# Altium footprint library SimpleLib.PcbLib: 18 footprints (part 2 of 2)
Each footprint in its own frame and in the unit in brackets; x right, y up, seen from the top. Pads: shape width x height; smd on the part's side, far side on the other; paste and mask are expansions set on the pad; w line width, h text height; cw(c..) or ccw(c..) is an arc to the next point about the centre after c.
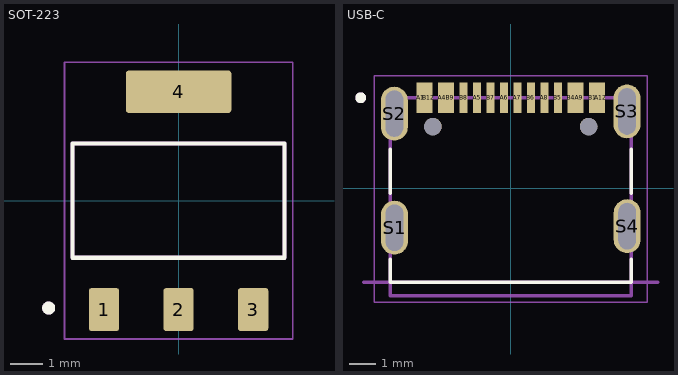
[diagram p1: the footprints below, top view; thin cyan lines are the x and y axes]

## SOT-223 [mm]
pads (4):
  rrect15% 0.93x1.31 smd: 1(-2.29,-3.345) 2(0,-3.345) 3(2.29,-3.345)
  rrect15% 3.24x1.31 smd: 4(0,3.345)
Top Overlay:
  circle w0.2: c-3.99,-3.3 r0.1
  lines w0.127: -3.253,-1.753 -3.253,1.753 3.253,1.753 3.253,-1.753 -3.253,-1.753
Mechanical 13:
  circle w0.2: c-3.99,-3.3 r0.1
  lines w0.127: -3.253,-1.753 -3.253,1.753 3.253,1.753 3.253,-1.753 -3.253,-1.753
Mechanical 15:
  lines w0.05: -3.502,-4.25 -3.502,4.25 3.502,4.25 3.502,-4.25 -3.502,-4.25
3D body "step_temp.STEP": height 1.8, standoff 0, extent -3.251,-3.499 3.251,3.499

## USB-C [mm]
pads (23):
  rect 0.3x1.14 smd mask+0: A1(-3.35,3.365) A4(-2.55,3.365) A5(-1.25,3.365) A6(-0.25,3.365) A7(0.25,3.365) A8(1.25,3.365) A9(2.55,3.365) A12(3.35,3.365) B1(3.05,3.365) B4(2.25,3.365) B5(1.75,3.365) B6(0.75,3.365) B7(-0.75,3.365) B8(-1.75,3.365) B9(-2.25,3.365) B12(-3.05,3.365)
  oval 1x2 hole 0.65 slot 1.72 at 90 deg: S1(-4.318,-1.46) S2(-4.325,2.776) S3(4.318,2.857) ""(4.325,-1.405)
  oval 0.9x1.8 hole 0.65 slot 1.4 at 90 deg: S4(4.325,-1.405)
  round 0.65 hole 0.65 unplated mask+0: ""(-2.89,2.295) ""(2.89,2.295)
Top Overlay:
  circle w0.2: c-5.575,3.365 r0.1
  lines w0.127: -4.47,-2.635 -4.47,-3.494 4.47,-3.494 4.47,-2.635 ; -4.47,-0.185 -4.47,1.455 ; 4.47,-0.185 4.47,1.455
Mechanical 1:
  lines w0: 4,3.273 cw(c4.335,3.29) 4.317,3.625 cw(c4.335,3.31) 4.65,3.327 ; 4,3.276 4,2.225 ccw(c4.31,2.235) 4.321,1.926 ; 4.318,1.926 ccw(c4.335,2.241) 4.65,2.224 ; 4.65,2.225 4.65,3.326
Mechanical 13:
  circle w0.2: c-5.575,3.365 r0.1
  lines w0.127: -5.47,-3.494 5.47,-3.494 ; -4.47,-3.985 -4.47,3.365 4.47,3.365 4.47,-3.985 -4.47,-3.985
  text "PCB Edge" at -2.07,-3.234 h0.7
Mechanical 15:
  lines w0.05: -5.075,-4.235 -5.075,4.186 5.075,4.186 5.075,-4.235 -5.075,-4.235
3D body "step_temp.STEP": height 3.26, standoff -1, extent -4.495,-3.939 4.445,3.811